# EAGLE library part CD4052B (library AMP2-ICs)
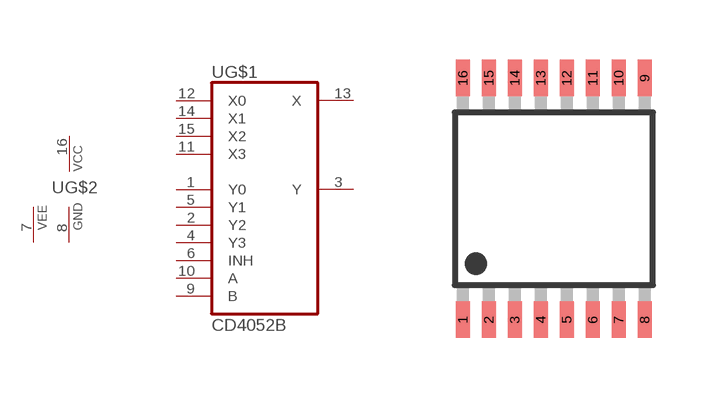
[diagram p71: symbol with the pads of TSSOP16-PW; footprint TSSOP16-PW]

Designator prefix -; gates G$1=4052 G$2=PWR+-

## CD4052B  [TSSOP16-PW]
1  G$1:Y0
2  G$1:Y2
3  G$1:Y
4  G$1:Y3
5  G$1:Y1
6  G$1:INH  in
7  G$2:VEE  pwr
8  G$2:GND  pwr
9  G$1:B  in
10  G$1:A  in
11  G$1:X3
12  G$1:X0
13  G$1:X
14  G$1:X1
15  G$1:X2
16  G$2:VCC  pwr

## Footprint TSSOP16-PW (pad centres in mm)
PLASTIC SMALL-OUTLINE PACKAGE PW (R-PDSO-G16) Source: www.ti.com .. ADS7828.pdf
smd 0.35 x 0.9: 1 -2.275,-3.025; 2 -1.625,-3.025; 3 -0.975,-3.025; 4 -0.325,-3.025; 5 0.325,-3.025; 6 0.975,-3.025; 7 1.625,-3.025; 8 2.275,-3.025; 9 2.275,3.025; 10 1.625,3.025; 11 0.975,3.025; 12 0.325,3.025; 13 -0.325,3.025; 14 -0.975,3.025; 15 -1.625,3.025; 16 -2.275,3.025